# Altium footprint library U2S_HVPP.PcbLib: 6 footprints
Each footprint in its own frame and in the unit in brackets; x right, y up, seen from the top. Pads: shape width x height; smd on the part's side, far side on the other; paste and mask are expansions set on the pad; w line width, h text height; cw(c..) or ccw(c..) is an arc to the next point about the centre after c.
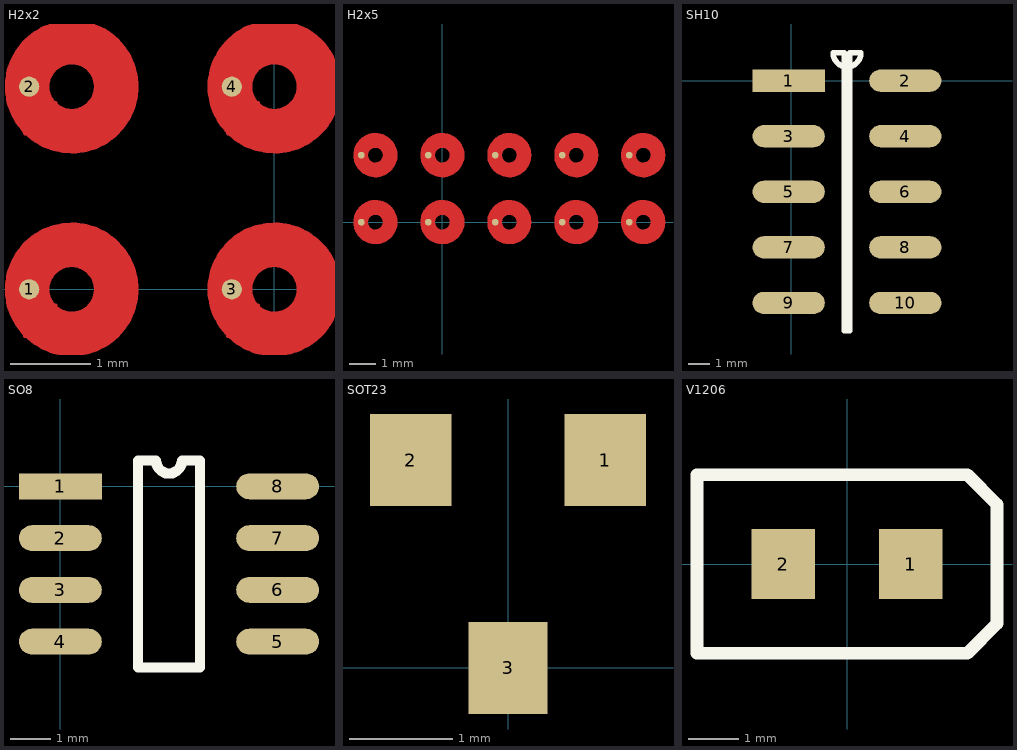
[diagram p0: the footprints below, top view; thin cyan lines are the x and y axes]

## H2x2 [mil]
pads (4):
  round 10 all layers, no hole: 1(-121,0) 2(-121,100) 3(-21,0) 4(-21,100)
Top Layer:
  circle w22: c-100,0 r22
  circle w22: c-100,100 r22
  circle w22: c0,0 r22
  circle w22: c0,100 r22
  lines w2: -123,-23 -108,-8 ; -123,77 -108,92 ; -23,-23 -8,-8 ; -23,77 -8,92

## H2x5 [mil]
pads (10):
  round 10 all layers, no hole: 1(-121,0) 2(-121,100) 3(-21,0) 4(-21,100) 5(79,0) 6(79,100) 7(179,0) 8(179,100) 9(279,0) 10(279,100)
Top Layer:
  circle w22: c-100,0 r22
  circle w22: c-100,100 r22
  circle w22: c0,0 r22
  circle w22: c0,100 r22
  circle w22: c100,0 r22
  circle w22: c100,100 r22
  circle w22: c300,0 r22
  circle w22: c300,100 r22
  circle w22: c200,100 r22
  circle w22: c200,0 r22
  lines w2: -123,-23 -108,-8 ; -123,77 -108,92 ; -23,-23 -8,-8 ; -23,77 -8,92 ; 77,-23 92,-8 ; 77,77 92,92 ; 177,-23 192,-8 ; 177,77 192,92 ; 277,-23 292,-8 ; 277,77 292,92

## SH10 [mil]
pads (10):
  rect 130x40 smd: 1(-5,0)
  oval 130x40 smd: 2(205,0) 3(-5,-100) 4(205,-100) 5(-5,-200) 6(205,-200) 7(-5,-300) 8(205,-300) 9(-5,-400) 10(205,-400)
Top Overlay:
  lines w10: 75,50 ccw(c100,50) 125,50 105,50 105,-450 95,-450 95,50 75,50

## SO8 [mil]
pads (8):
  rect 80x25 smd: 1(0,0)
  oval 80x25 smd: 2(0,-50) 3(0,-100) 4(0,-150) 5(210,-150) 6(210,-100) 7(210,-50) 8(210,0)
Top Overlay:
  lines w10: 75,-175 135,-175 135,25 117.5,25 cw(c105,25) 92.5,25 75,25 75,-175

## SOT23 [mil]
height 50
pads (3):
  rect 31x35 smd: 1(37,79) 2(-37,79)
  rect 30x35 smd: 3(0,0)

## V1206 [mil]
pads (2):
  rect 50x55 smd: 1(50,0) 2(-50,0)
Top Overlay:
  lines w10: -117.5,-70 94.17,-70 117.5,-46.67 117.5,46.67 94.17,70 -117.5,70 -117.5,0 -117.5,-70